# Altium schematic symbol library KF301.SCHLIB: 1 symbol
Pins are listed as number, name and electrical type; pins without a type are passive.

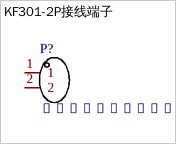
[diagram p0: symbol KF301-2P接线端子]

## KF301-2P接线端子
designator P?, comment KF301-2P���߶���
Add into BOM: yes; Symbol: KF301-2P���߶���; Device: KF301-2P���߶���; LCSC Part Name: KF301-2P���߶���; Supplier Part: C9900016950; Manufacturer Part: KF301-2P���߶���; Supplier Footprint: CK301-2P; JLCPCB Part Class: ��չ��; Datasheet: https://atta.szlcsc.comnull; Supplier: LCSC; Convert to PCB: yes; Name: KF301-2P���߶���
footprint CONN-TH_XY301V-A-5.0-2P
pins: 1, 2